# EAGLE library part TJA1441AT (library TJA1441AT)
ISO 11898-2:2016, SAE J2284-1 to SAE J2284-5 and SAE J1939-14 compliant Standard CAN and CAN FD data bit rates up to 5 Mbit/s Low Electromagnetic Emission (EME) and high Electromagnetic Immunity (EMI) Qualified according to AEC-Q100 Grade 1 Silent mode for node diagnosis and failure containment TJA1441A only: VIO input for interfacing with 3.3 V to 5 V microcontrollers TJA1441D only: dedicated input for switching to very low-current Off mode and disengaging from the bus All variants are avail Source: Datasheet <https://www.nxp.com/docs/en/data-sheet/TJA1441.pdf>
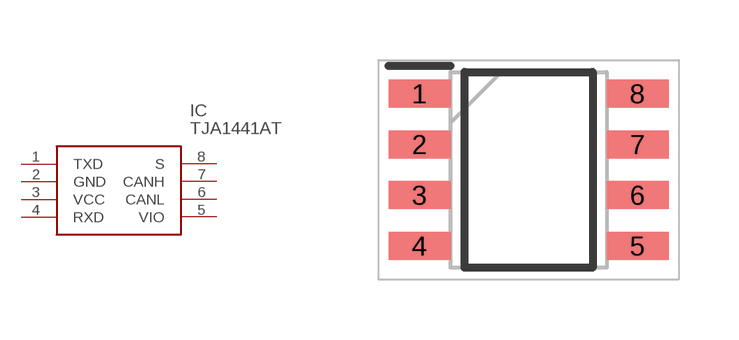
[diagram p0: symbol with the pads of SOIC127P600X175-8N; footprint SOIC127P600X175-8N]

Designator prefix IC

## TJA1441AT (Description: ISO 11898-2:2016, SAE J2284-1 to SAE J2284-5 and SAE J1939-14 compliant Standard CAN and CAN FD data bit rates up to 5 Mbit/s Low Electromagnetic Emission (EME) and high Electromagnetic Immunity (EMI) Qualified according to AEC-Q100 Grade 1 Silent mode for node diagnosis and failure containment TJA1441A only: VIO input for interfacing with 3.3 V to 5 V microcontrollers TJA1441D only: dedicated input for switching to very low-current Off mode and disengaging from the bus All variants are avail; Height: 1.75mm; Manufacturer_Name: NXP; Manufacturer_Part_Number: TJA1441AT)  [SOIC127P600X175-8N]
1  TXD
2  GND
3  VCC
4  RXD
5  VIO
6  CANL
7  CANH
8  S

## Footprint SOIC127P600X175-8N (pad centres in mm)
SOT96-1
smd 1.55 x 0.7: 1 -2.725,1.905; 2 -2.725,0.635; 3 -2.725,-0.635; 4 -2.725,-1.905; 5 2.725,-1.905; 6 2.725,-0.635; 7 2.725,0.635; 8 2.725,1.905